# Altium footprint library FB_MI0805K601R-10.PcbLib: 1 footprints
Each footprint in its own frame and in the unit in brackets; x right, y up, seen from the top. Pads: shape width x height; smd on the part's side, far side on the other; paste and mask are expansions set on the pad; w line width, h text height; cw(c..) or ccw(c..) is an arc to the next point about the centre after c.
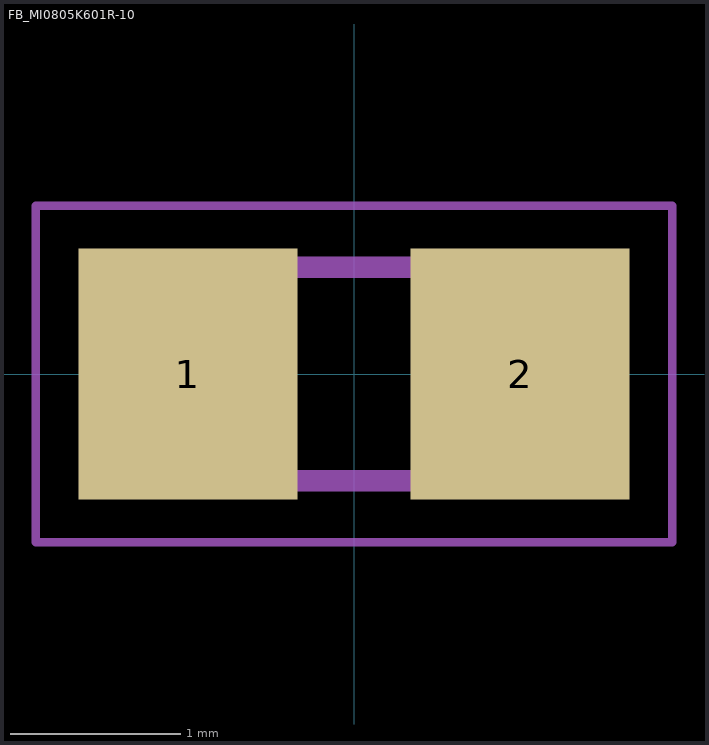
[diagram p0: the footprint, top view; thin cyan lines are the x and y axes]

## FB_MI0805K601R-10 [mm]
pads (2):
  rect 1.285x1.47 smd: 1(-0.973,0) 2(0.973,0)
Mechanical 13:
  lines w0.127: -1,-0.625 -1,0.625 1,0.625 1,-0.625 -1,-0.625
Mechanical 15:
  lines w0.05: -1.865,-0.985 -1.865,0.985 1.865,0.985 1.865,-0.985 -1.865,-0.985
3D body "MI0805K601R-10.step": height 1.1, standoff 0, extent -1,-0.625 1,0.625